# EAGLE library part LTC3105* (library linear-technology)
400mA Step-Up DC/DC Converter with Maximum Power Point Control and 250mV Start-Up
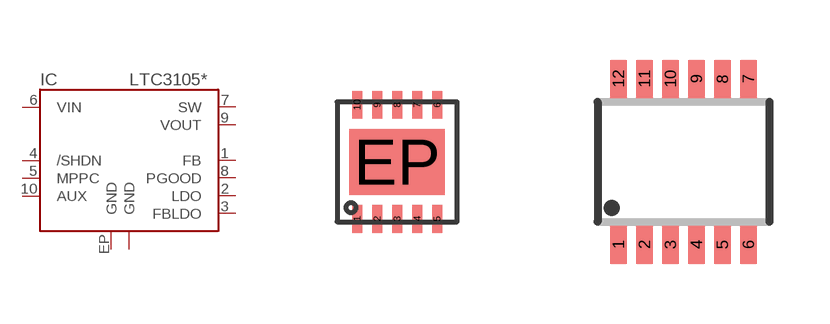
[diagram p8: symbol with the pads of DFN10EP; footprints DFN10EP, MSOP12]

Designator prefix IC

## LTC3105EDD  [DFN10EP]
1  FB  pas
2  LDO  pwr
3  FBLDO  pas
4  /SHDN  in
5  MPPC  pas
6  VIN  pwr
7  SW  pas
8  PGOOD  oc
9  VOUT  pas
10  AUX  pas
EP  GND  pwr

## LTC3105EMS  [MSOP12]
1  FB  pas
2  LDO  pwr
3  FBLDO  pas
4  /SHDN  in
5  MPPC  pas
6  GND  pwr
7  GND  pwr
8  VIN  pwr
9  SW  pas
10  PGOOD  oc
11  VOUT  pas
12  AUX  pas

## Footprint DFN10EP (pad centres in mm)
10-LEAD (3mm × 3mm) PLASTIC DFN
smd 0.25 x 0.7: 1 -1,-1.425; 2 -0.5,-1.425; 3 0,-1.425; 4 0.5,-1.425; 5 1,-1.425; 6 1,1.425; 7 0.5,1.425; 8 0,1.425; 9 -0.5,1.425; 10 -1,1.425
smd 2.38 x 1.65: EP 0,0

## Footprint MSOP12 (pad centres in mm)
12-LEAD PLASTIC MSOP
smd 0.42 x 0.95: 1 -1.625,-2.075; 2 -0.975,-2.075; 3 -0.325,-2.075; 4 0.325,-2.075; 5 0.975,-2.075; 6 1.625,-2.075; 7 1.625,2.075; 8 0.975,2.075; 9 0.325,2.075; 10 -0.325,2.075; 11 -0.975,2.075; 12 -1.625,2.075